# EAGLE library part L3GD20 (library xnemo)
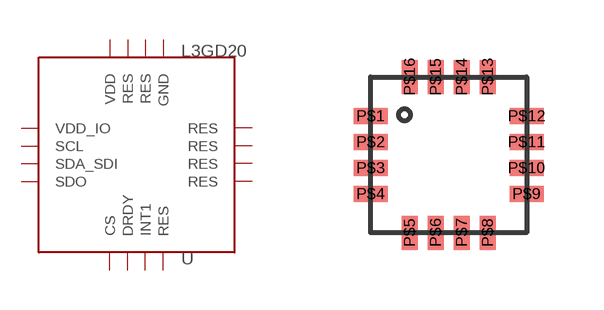
[diagram p0: symbol with the pads of ST_LGA16_4X4; footprint ST_LGA16_4X4]

Designator prefix U

## L3GD20  [ST_LGA16_4X4]
P$1  VDD_IO
P$2  SCL
P$3  SDA_SDI
P$4  SDO
P$5  CS
P$6  DRDY
P$7  INT1
P$8  RES
P$9  RES
P$10  RES
P$11  RES
P$12  RES
P$13  GND
P$14  RES
P$15  RES
P$16  VDD

## Footprint ST_LGA16_4X4 (pad centres in mm)
smd 0.85 x 0.4: P$1 -1.95,0.975; P$2 -1.95,0.325; P$3 -1.95,-0.325; P$4 -1.95,-0.975; P$9 1.95,-0.975; P$10 1.95,-0.325; P$11 1.95,0.325; P$12 1.95,0.975
smd 0.4 x 0.85: P$5 -0.975,-1.95; P$6 -0.325,-1.95; P$7 0.325,-1.95; P$8 0.975,-1.95; P$13 0.975,1.95; P$14 0.325,1.95; P$15 -0.325,1.95; P$16 -0.975,1.95